# EAGLE library part ARDUINO-NANO-SHIELD-CON (library contrib-con-misc)
Shield connector layout for the Arduino Nano (2 rows with 15pins each) Pin spacing is 0.1 inch.
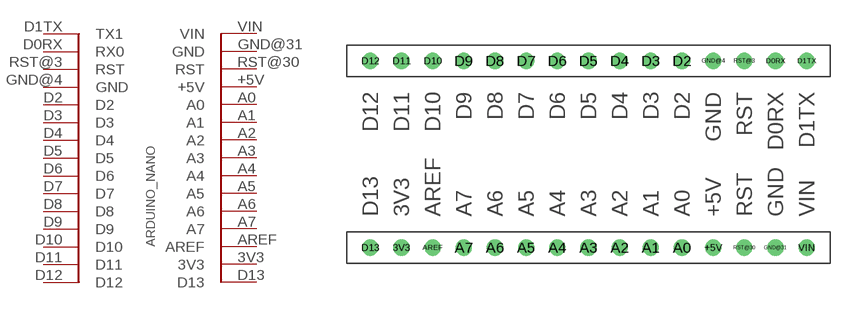
[diagram p1: symbol with the pads of ARDUINO-NANO-SHIELD-CON; footprint ARDUINO-NANO-SHIELD-CON]

Designator prefix ARDUINO_NANO

## ARDUINO-NANO-SHIELD-CON  [ARDUINO-NANO-SHIELD-CON]
3V3  3V3
+5V  +5V
A0  A0
A1  A1
A2  A2
A3  A3
A4  A4
A5  A5
A6  A6
A7  A7
AREF  AREF
D0RX  RX0
D1TX  TX1
D2  D2
D3  D3
D4  D4
D5  D5
D6  D6
D7  D7
D8  D8
D9  D9
D10  D10
D11  D11
D12  D12
D13  D13
GND@4  GND
GND@31  GND
RST@3  RST
RST@30  RST
VIN  VIN

## Footprint ARDUINO-NANO-SHIELD-CON (pad centres in mm)
drill 0.813: 3V3 -12.7,-7.62; +5V 12.7,-7.62; A0 10.16,-7.62; A1 7.62,-7.62; A2 5.08,-7.62; A3 2.54,-7.62; A4 0,-7.62; A5 -2.54,-7.62; A6 -5.08,-7.62; A7 -7.62,-7.62; AREF -10.16,-7.62; D0RX 17.78,7.62; D1TX 20.32,7.62; D2 10.16,7.62; D3 7.62,7.62; D4 5.08,7.62; D5 2.54,7.62; D6 0,7.62; D7 -2.54,7.62; D8 -5.08,7.62; D9 -7.62,7.62; D10 -10.16,7.62; D11 -12.7,7.62; D12 -15.24,7.62; D13 -15.24,-7.62; GND@4 12.7,7.62; GND@31 17.78,-7.62; RST@3 15.24,7.62; RST@30 15.24,-7.62; VIN 20.32,-7.62